# Altium schematic symbol library devkit-visao.SchLib: 57 symbols (part 2 of 2)
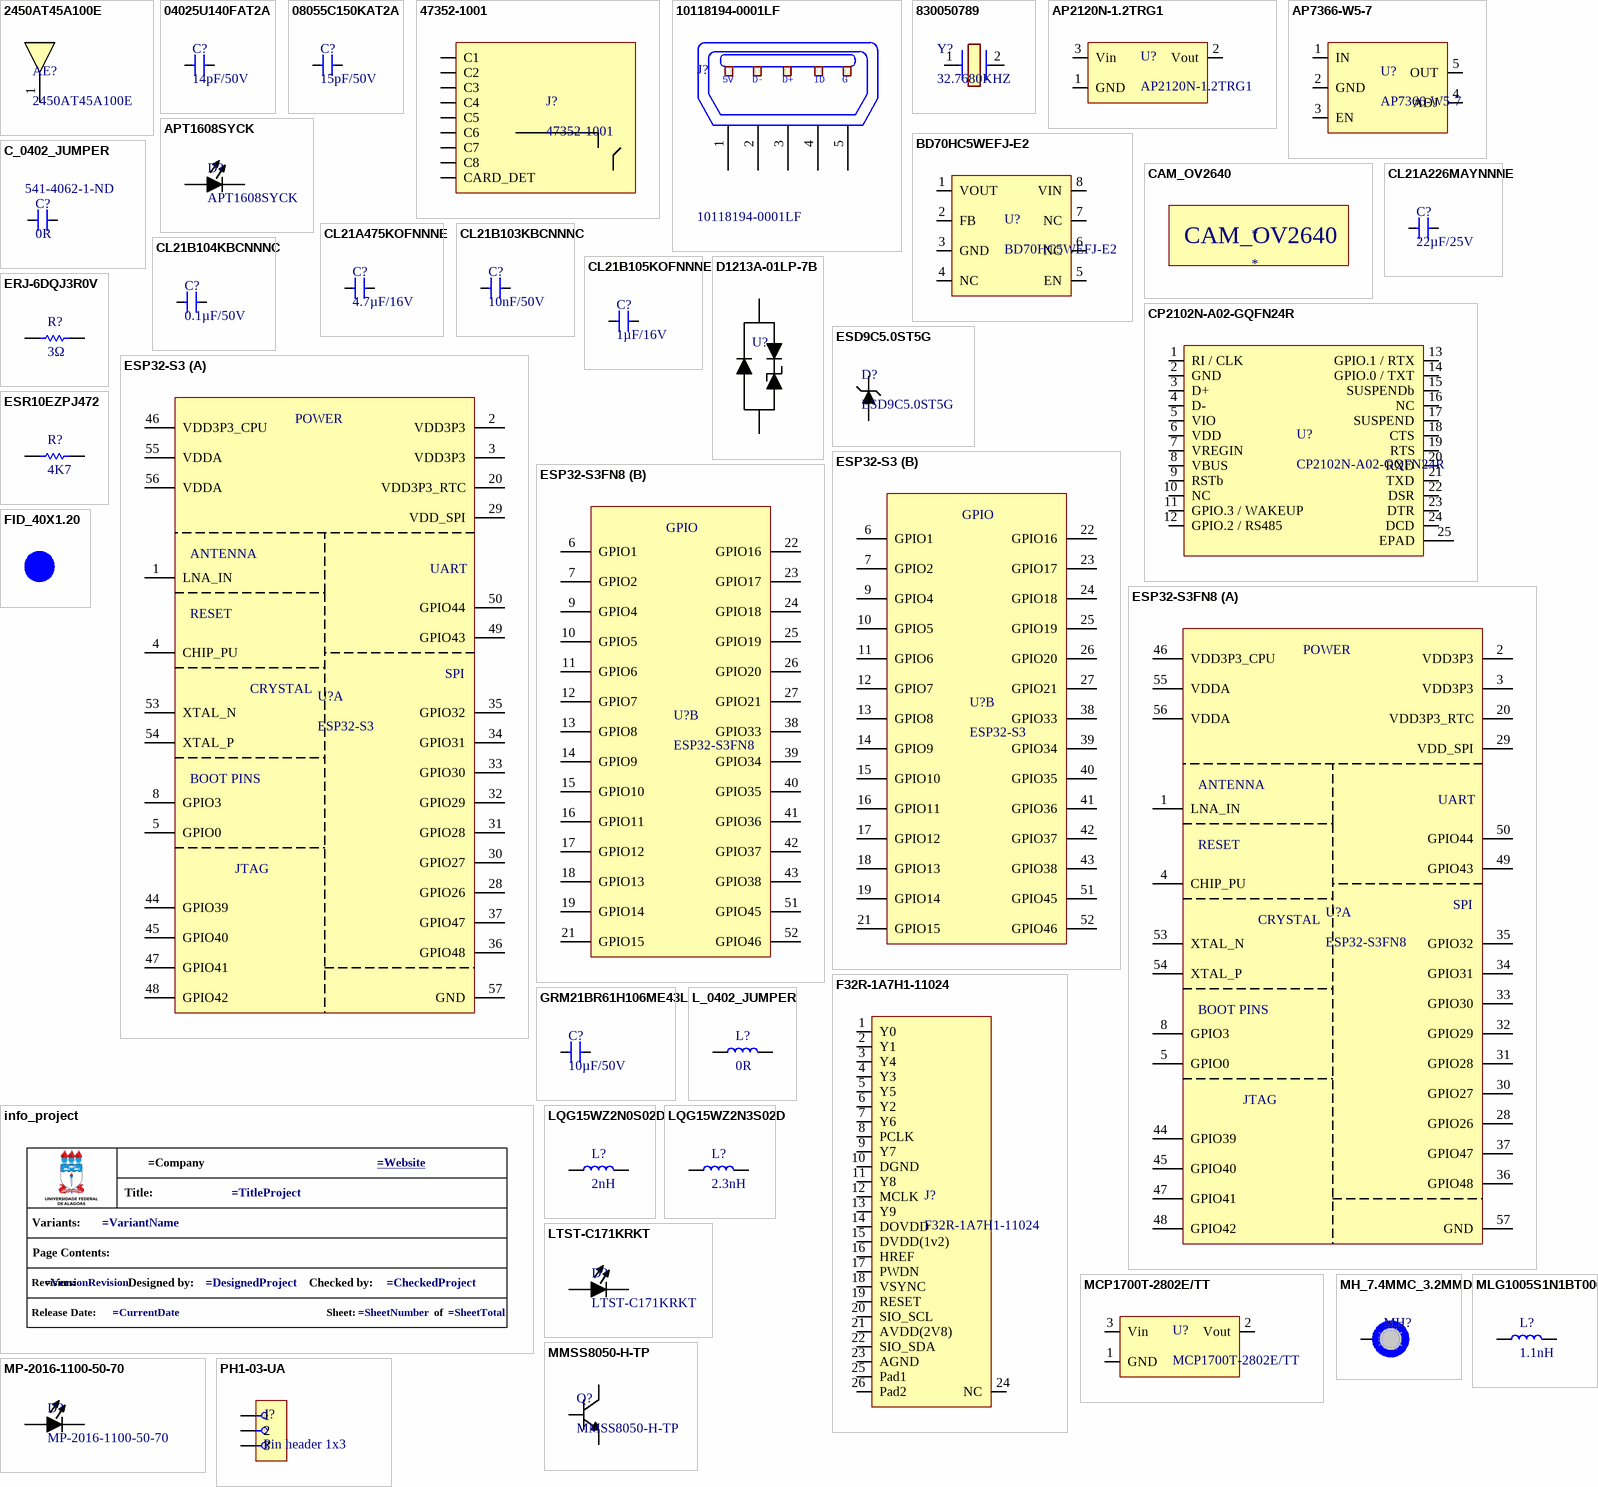
[diagram p2: symbols 2450AT45A100E to PH1-03-UA]

## MCP1700T-2802E/TT
designator U?
IC - REG LINEAR 2.8V 250MA SOT23-3; Manufacturer 1: Diodes; Manufacturer Part Number 1: AP2120N-1.2TRG1; Dropout Voltage: 900mV; Number of Outputs: 1; Min Input Voltage: 2V; Max Input Voltage: 6V; Output Voltage: 1.2V; Output Current: 150mA; Polarity: Positive; Quiescent Current: 50uA; Accuracy: 2%; Output Type: Fixed; Power Supply Rejection Ratio (PSRR): 65dB; .SCHChecked: Victor H; Supplier 1: Digi-Key; RoHS: Yes; Category: Voltage Regulators - Linear; Stock 1: 16523; Pricing 1: 1=0,40000, 10=0,29500, 25=0,25840, 100=0,16710, 250=0,13832, 500=0,11066, 1000=0,08484 (USD); Mount: Surface Mount; Case/Package: TO-236-3; Number of Pins: 3; Min Operating Temperature: -40°C; Max Operating Temperature: 85°C; Package Quantity: 3000; Packaging: Tape and Reel; Number of Regulators: 1; Max Output Current: 150mA; Output Configuration: Positive; Min Output Voltage: 1.2V; RoHS Compliant: Yes; Supplier Part Number 1: AP2120N-1.2TRG1DICT-ND; Supplier 2: Digi-Key; Stock 2: 59427; Pricing 2: 1=0,50000, 25=0,42400, 100=0,37500 (USD); Output Voltage Accuracy: 2%; Series: -; Radiation Hardening: No; Lead Free: Lead Free; ComponentLink4URL: https://datasheet.ciiva.com/16450/filehandler-aspxddocname-en011779-16450300.pdf?src-supplier=Future+Electronics; ComponentLink4Description: https://datasheet.ciiva.com/16450/filehandler-aspxddocname-en011779-16450300.pdf?src-supplier=Future+Electronics; ComponentLink5URL: https://datasheet.ciiva.com/2055/21826b-2055089.pdf?src-supplier=Digi-Key; ComponentLink5Description: https://datasheet.ciiva.com/2055/21826b-2055089.pdf?src-supplier=Digi-Key; Supplier Part Number 2: MCP1700T-2802E/TTCT-ND; .PCBChecked: Victor H
footprint MCP1700T-2802E/TT
pins: 1 GND, 2 Vout, 3 Vin

## MH_7.4MMC_3.2MMD
designator MH?  (value not drawn)  (no BOM)
Mounting Hole 7.4mm Diameter 3.2mm Drill
footprint MH_7.4MMC_3.2MMD
pins: 1

## MLG1005S1N1BT000
designator L?, comment 1.1nH
IND - 1.1nH 1A 0402 100mΩ ±0.1nH; Manufacturer 1: TDK; Manufacturer Part Number 1: MLG1005S1N1BT000; Core Material: Non-Magnetic,Ceramic; Shielding: Unshielded; Q Factor: 7; DC Resistance (DCR): 100mR; Self Resonant Frequency: 10GHz; Test Frequency: 100MHz; .SCHChecked: Alex Batista; Supplier 1: Digi-Key; Stock 1: 9040; Pricing 1: 1=0.10000, 10=0.05800, 25=0.05120, 50=0.04360, 100=0.03840, 250=0.03520, 500=0.03200, 1000=0.02688, 2500=0.02304 (USD); RoHS: Yes; Mount: Surface Mount; Case/Package: 0402; Weight: 2.3E-05oz; Case Code (Imperial): 0402; Case Code (Metric): 1005; Min Operating Temperature: -55°C; Max Operating Temperature: 125°C; Packaging: Tape and Reel; Current Rating: 1A; Termination: SMD/SMT; Max DC Current: 1A; Inductance: 1.1nH; Package Quantity: 10000; Length: 0.039inch; Width: 0.02inch; Height: 0.5mm; Height - Seated (Max): 0.022inch; ComponentLink1URL: http://www.mouser.com/ds/2/400/nductor_commercial_high-frequency_mlg1005s_en-918305.pdf?src-supplier=Mouser; ComponentLink1Description: http://www.mouser.com/ds/2/400/nductor_commercial_high-frequency_mlg1005s_en-918305.pdf?src-supplier=Mouser; ComponentLink2URL: https://product.tdk.com/info/en/catalog/datasheets/inductor_commercial_high-frequency_mlg1005s_en.pdf?src-supplier=Digi-Key; ComponentLink2Description: https://product.tdk.com/info/en/catalog/datasheets/inductor_commercial_high-frequency_mlg1005s_en.pdf?src-supplier=Digi-Key; Supplier Part Number 1: 445-16255-1-ND; .PCBChecked: Alex Batista; Supplier 2: Digi-Key; Stock 2: 21105; Pricing 2: 1=0.10000, 10=0.06300, 25=0.05600, 50=0.04760, 100=0.04200, 250=0.03852, 500=0.03500, 1000=0.02940, 2500=0.02520 (USD); Supplier Part Number 2: 490-15068-1-ND
footprint L0402
pins: 1, 2

## MMSS8050-H-TP
designator Q?
TRANSISTOR - NPN 25V 1.5A SOT23; Manufacturer 1: MCC; hFE Min: 120; Max Power Dissipation: 625mW; Collector Emitter Voltage (VCEO): 500mV; Collector Base Voltage (VCBO): 40V; Emitter Base Voltage (VEBO): 5V; Transition Frequency: 100MHz; Element Configuration: Single; .SCHChecked: Victor H; mouting: SMD; ComponentLink1URL: https://datasheet.ciiva.com/18648/dss5320t-18648043.pdf?src-supplier=Digi-Key; ComponentLink1Description: https://datasheet.ciiva.com/18648/dss5320t-18648043.pdf?src-supplier=Digi-Key; ComponentLink2URL: https://datasheet.ciiva.com/11206/dss5320t-11206349.pdf?src-supplier=Avnet; ComponentLink2Description: https://datasheet.ciiva.com/11206/dss5320t-11206349.pdf?src-supplier=Avnet; Supplier 1: Digi-Key; Manufacturer Part Number 1: MMSS8050-H-TP; RoHS: Yes; Category: BJTs; Stock 1: 87310; Pricing 1: 1=0,21000, 10=0,17100, 100=0,09060, 500=0,05962, 1000=0,04054 (USD); Mount: Surface Mount; Case/Package: SOT-23; Number of Pins: 3; Min Operating Temperature: -55°C; Max Operating Temperature: 150°C; Packaging: Tape and Reel; Package Quantity: 3000; Polarity: NPN; Collector Emitter Saturation Voltage: 500mV; Max Collector Current: 1.5A; Collector Emitter Breakdown Voltage: 25V; Max Breakdown Voltage: 25V; Gain Bandwidth Product: 100MHz; Collector-emitter Voltage-Max: 500mV; Series: -; Lead Free: Lead Free; RoHS Compliant: Yes; ComponentLink3URL: https://datasheet.ciiva.com/16291/mmss8050-255048-16291447.pdf?src-supplier=Mouser; ComponentLink3Description: https://datasheet.ciiva.com/16291/mmss8050-255048-16291447.pdf?src-supplier=Mouser; ComponentLink4URL: https://datasheet.ciiva.com/972/mmss8050sot-23-972894.pdf?src-supplier=Digi-Key; ComponentLink4Description: https://datasheet.ciiva.com/972/mmss8050sot-23-972894.pdf?src-supplier=Digi-Key; ComponentLink5URL: https://datasheet.ciiva.com/972/mmss8050sot-23-972895.pdf?src-supplier=Digi-Key; ComponentLink5Description: https://datasheet.ciiva.com/972/mmss8050sot-23-972895.pdf?src-supplier=Digi-Key; ComponentLink6URL: https://datasheet.ciiva.com/972/mmss8050sot-23-972893.pdf?src-supplier=Digi-Key; ComponentLink6Description: https://datasheet.ciiva.com/972/mmss8050sot-23-972893.pdf?src-supplier=Digi-Key; Supplier Part Number 1: MMSS8050-H-TPMSCT-ND; .PCBChecked: Victor H
footprint MMSS8050-H-TP
pins: 1 B, 2 E, 3 C

## MP-2016-1100-50-70
designator D?
LED - Uni-Color White 27lm 5000K Chip LED 2-Pin SMD T/R; Manufacturer 1: Luminus Devices; Viewing Angle: 110°; Test Current: 60mA; Color Rendering Index (CRI): 70; Max Current Rating: 120mA; Thermal Resistance of Package: 35°C/W; Lens Style: Rectangular; Forward Voltage: 3V; Number of LEDs: 1; Max Power Dissipation: 816mW; Reverse Voltage: 5V; .PCBChecked: Victor H; Supplier 1: Digi-Key; Manufacturer Part Number 1: MP-2016-1100-50-70; RoHS: Yes; Category: Uncategorized; Stock 1: 60114; Pricing 1: 1=0,16000, 10=0,08600, 100=0,04060, 500=0,03476, 1000=0,02674, 2000=0,02514 (USD); Mount: Surface Mount; Case/Package: 0806; Number of Pins: 2; Color: White; Case Code (Metric): 2016; Case Code (Imperial): 0806; Min Operating Temperature: -40°C; Max Operating Temperature: 80°C; Packaging: Tape and Reel; Correlated Color Temperature (CCT): 5000 K; Luminous Flux: 27lm; RoHS Compliant: Yes; ComponentLink1URL: https://datasheet.ciiva.com/48679/luminus-mp2016-datasheet-48679211.pdf?src-supplier=Avnet; ComponentLink1Description: https://datasheet.ciiva.com/48679/luminus-mp2016-datasheet-48679211.pdf?src-supplier=Avnet; Supplier Part Number 1: 1214-1209-1-ND; .SCHChecked: Victor H
footprint MP-2016-1100-50-70
pins: 1, 2

## PH1-03-UA
designator J?, comment Pin header 1x3
CONN - HEADER VERT 3POS 2.54MM; Manufacturer 1: Adam Equipment; Manufacturer Part Number 1: PH1-03-UA; Number of Positions: 3; .SCHChecked: Victor H; Supplier 1: Digi-Key; RoHS: Yes; Category: Connectors; Stock 1: 48736; Pricing 1: 1=0,10000, 10=0,05000, 100=0,03650, 500=0,03024, 1000=0,02646, 5000=0,02268, 10000=0,02205 (USD); Pitch: 2.54mm; Lead Free: Lead Free; ComponentLink1URL: https://datasheet.ciiva.com/16396/catpg240-254-16396026.pdf?src-supplier=Future+Electronics; ComponentLink1Description: https://datasheet.ciiva.com/16396/catpg240-254-16396026.pdf?src-supplier=Future+Electronics; Supplier Part Number 1: 2057-PH1-03-UA-ND; .PCBChecked: Victor H
footprint PH1-03-UA
pins: 1, 2, 3

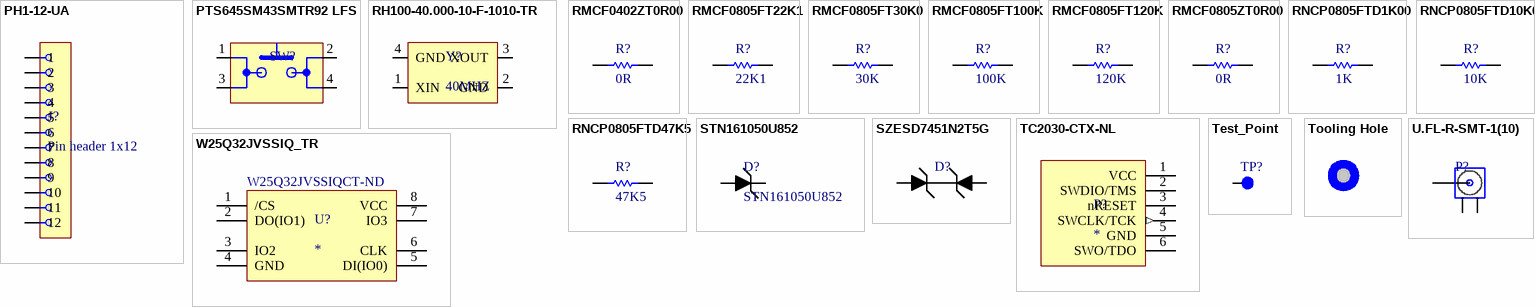
[diagram p1: symbols PH1-12-UA to W25Q32JVSSIQ_TR]

## PH1-12-UA
designator J?, comment Pin header 1x12
CONN - HEADER VERT 12POS 2.54MM; Manufacturer 1: Adam Equipment; Manufacturer Part Number 1: PH1-12-UA; .SCHChecked: Victor H; .PCBChecked: Victor H; ComponentLink1URL: http://www.adam-tech.com/catalog/2012/page_312-315.pdf?src-supplier=Future+Electronics; ComponentLink1Description: http://www.adam-tech.com/catalog/2012/page_312-315.pdf?src-supplier=Future+Electronics; Supplier 1: Digi-Key; RoHS: Yes; Category: Headers and Wire Housings; Stock 1: 4680; Pricing 1: 1=0,21000, 10=0,17600, 100=0,13510, 500=0,11434, 1000=0,09356, 5000=0,08316, 10000=0,07536 (USD); Lead Free: Lead Free; ComponentLink2URL: https://datasheet.ciiva.com/16480/page-312-315-16480233.pdf?src-supplier=Future+Electronics; ComponentLink2Description: https://datasheet.ciiva.com/16480/page-312-315-16480233.pdf?src-supplier=Future+Electronics; Supplier Part Number 1: 2057-PH1-12-UA-ND
footprint PH1-12-UA
pins: 1, 2, 3, 4, 5, 6, 7, 8, 9, 10, 11, 12

## PTS645SM43SMTR92 LFS
designator SW?, comment PTS645SM43SMTR92LFS  (value not drawn)
SWITCH - TACTILE SPST-NO 0.05A 12V; Manufacturer 1: ITT C&K; .PCBChecked: Victor H; Mechanical Life: 100000Cycles; Actuator Material: Nylon,Polyamide,PA66; Throw Configuration: SPST; Operating Force: 160gf; Contact Resistance: 100mR; Max Current Rating: 50mA; Illumination Type: Non-Illuminated,Illuminated; Switch Function: Off-Mom; Actuator Type: Standard; Actuator Length: 0.85mm; mouting: SMD; Supplier 1: Digi-Key; Supplier Part Number 1: CKN9112CT-ND; .SCHChecked: Victor H; Manufacturer Part Number 1: PTS645SM43SMTR92LFS; RoHS: Yes; Category: Tactile Switches; Stock 1: 586792; Pricing 1: 1=0,26000, 10=0,25100, 25=0,23840, 100=0,21580, 250=0,19676, 500=0,18288 (USD); Mount: Surface Mount; Case/Package: SMD/SMT; Contact Plating: Silver; Contact Material: Silver; Color: Black; Min Operating Temperature: -20°C; Max Operating Temperature: 60°C; Max Voltage Rating (DC): 12V; Packaging: Tape and Reel; Termination: Gull Wing; Package Quantity: 1; Current Rating: 50mA; Voltage Rating (DC): 12V; Orientation: Straight; Series: PTS645; Length: 6mm; Depth: 9mm; Size: 6mm; Lead Free: Lead Free; RoHS Compliant: Yes; REACH SVHC: No SVHC; ComponentLink1URL: https://datasheet.ciiva.com/29931/getdatasheetpartid-764615-29931183.pdf?src-supplier=Verical; ComponentLink1Description: https://datasheet.ciiva.com/29931/getdatasheetpartid-764615-29931183.pdf?src-supplier=Verical; ComponentLink2URL: https://datasheet.ciiva.com/29903/getdatasheetpartid-786341-29903846.pdf?src-supplier=Verical; ComponentLink2Description: https://datasheet.ciiva.com/29903/getdatasheetpartid-786341-29903846.pdf?src-supplier=Verical; ComponentLink3URL: https://datasheet.ciiva.com/14920/pts645-14920733.pdf?src-supplier=Digi-Key; ComponentLink3Description: https://datasheet.ciiva.com/14920/pts645-14920733.pdf?src-supplier=Digi-Key; ComponentLink4URL: https://datasheet.ciiva.com/14920/pts645-14920734.pdf?src-supplier=Digi-Key; ComponentLink4Description: https://datasheet.ciiva.com/14920/pts645-14920734.pdf?src-supplier=Digi-Key; ComponentLink5URL: https://datasheet.ciiva.com/14920/pts645-14920735.pdf?src-supplier=Digi-Key; ComponentLink5Description: https://datasheet.ciiva.com/14920/pts645-14920735.pdf?src-supplier=Digi-Key
footprint PTS645SM43SMTR92 LFS
pins: 1, 2, 3, 4

## RH100-40.000-10-F-1010-TR
designator Y?, comment 40MHZ
Crystal - 40MHz ±10ppm (Tol) ±10ppm (Stability) 10pF FUND 60Ohm 4-Pin SMD T/R; Manufacturer 1: Raltron Electronics; Manufacturer Part Number 1: RH100-40.000-10-F-1010-TR; .SCHChecked: Victor H; Supplier 1: Digi-Key; RoHS: Yes; Stock 1: 8779; Pricing 1: 1=0,39000, 10=0,32400, 50=0,29180, 100=0,25940, 500=0,24640, 1000=0,20750 (USD); Supplier Part Number 1: 2151-RH100-40.000-10-F-1010-TRCT-ND; .PCBChecked: Victor H
footprint RH100-40.000-10-F-1010-TR
pins: 1 XIN, 2 GND, 3 XOUT, 4 GND

## RMCF0402ZT0R00
designator R?, comment 0R
RES - 0R 1/16W 0402; Manufacturer: Stackpole Electronics; Manufacturer Part Number: RMCF0402ZT0R00; .PCBChecked: Victor Holanda; Power Rating: 63mW; Current Rating: 1A; Working Voltage: 50V; .SCHChecked: Victor Holanda; Supplier 1: Digi-Key; RoHS: Yes; Category: Chip SMD Resistors; Stock 1: 13640274; Pricing 1: 1=0,10000, 10=0,01000, 25=0,00720, 50=0,00560, 100=0,00410, 250=0,00316, 500=0,00252, 1000=0,00186, 5000=0,00133 (USD); Mount: Surface Mount; Case/Package: 0402; Case Code (Metric): 1005; Case Code (Imperial): 0402; Contact Plating: Tin,Matte; Min Operating Temperature: -55°C; Max Operating Temperature: 155°C; Resistance: 0R; Packaging: Tape and Reel; Resistor Type: Thick Film; Number of Terminations: 2; Max Power Dissipation: 63mW; Features: Automotive AEC-Q200; Series: RMCF; Technology: THICK FILM; Construction: Rectangular; Length: 0.039inch; Width: 0.02inch; Height: 0.016inch; Depth: 0.5mm; Radiation Hardening: No; Military Standard: Not; Lead Free: Lead Free; RoHS Compliant: Yes; ComponentLink1URL: https://datasheet.ciiva.com/26835/getdatasheetpartid-409751-26835612.pdf?src-supplier=Verical; ComponentLink1Description: https://datasheet.ciiva.com/26835/getdatasheetpartid-409751-26835612.pdf?src-supplier=Verical; Supplier Part Number 1: RMCF0402ZT0R00CT-ND
footprint R0402
pins: 1, 2

## RMCF0805FT22K1
designator R?, comment 22K1
RES - 22K1 1/8W 0805 ±1%; Manufacturer 1: Stackpole Electronics; Manufacturer Part Number 1: RMCF0805FT22K1; .PCBChecked: Victor H; Resistance: 22.1kR; Power Rating: 125mW; Temperature Coefficient: 100ppm/°C; .SCHChecked: Victor H; ComponentLink7URL: https://datasheet.ciiva.com/15193/getdatasheetpartid-409700-15193558.pdf?src-supplier=Verical; ComponentLink7Description: https://datasheet.ciiva.com/15193/getdatasheetpartid-409700-15193558.pdf?src-supplier=Verical; Supplier 1: Digi-Key; RoHS: Yes; Category: Chip SMD Resistors; Stock 1: 1311048; Pricing 1: 1=0,10000, 10=0,02700, 100=0,01090, 1000=0,00488, 2500=0,00423 (USD); Mount: Surface Mount; Case/Package: 0805; Case Code (Metric): 2012; Case Code (Imperial): 0805; Contact Plating: Tin,Matte; Size Code: 0805; Min Operating Temperature: -55°C; Max Operating Temperature: 155°C; Packaging: Tape and Reel; Tolerance: 1%; Resistor Type: Thick Film; Number of Terminations: 2; Max Power Dissipation: 125mW; Features: Automotive AEC-Q200; Series: RMCF; Construction: Rectangular; Length: 0.079inch; Width: 0.049inch; Height: 0.026inch; Depth: 1.25mm; Radiation Hardening: No; Military Standard: Not; Lead Free: Lead Free; RoHS Compliant: Yes; Supplier Part Number 1: RMCF0805FT22K1CT-ND
footprint R0805
pins: 1, 2

## RMCF0805FT30K0
designator R?, comment 30K
RES - 30K 1/8W 0805 ±1%; Manufacturer: Stackpole Electronics; Manufacturer Part Number: RMCF0805FT30K0; Resistance: 30kR; Max Power Dissipation: 125mW; Temperature Coefficient: 100ppm/°C; .SCHChecked: Victor H; Supplier 1: Digi-Key; RoHS: Yes; Category: Chip SMD Resistors; Stock 1: 854420; Pricing 1: 1=0,10000, 10=0,02700, 100=0,01090, 1000=0,00488, 2500=0,00423 (USD); Mount: Surface Mount; Case/Package: 0805; Contact Plating: Tin,Matte; Min Operating Temperature: -55°C; Max Operating Temperature: 155°C; Packaging: Tape and Reel; Tolerance: 1%; Resistor Type: Thick Film; Package Quantity: 5000; Number of Terminations: 2; Features: Automotive AEC-Q200; Series: RMCF; Length: 0.079inch; Width: 0.049inch; Height: 0.026inch; Radiation Hardening: No; Lead Free: Lead Free; RoHS Compliant: Yes; ComponentLink1URL: http://components.arrow.com/part/dataview/40964155S7714593N1174?src-supplier=Arrow+Electronics; ComponentLink1Description: http://components.arrow.com/part/dataview/40964155S7714593N1174?src-supplier=Arrow+Electronics; ComponentLink2URL: https://www.seielect.com/catalog/sei-rmcf_rmcp.pdf?src-supplier=Digi-Key; ComponentLink2Description: https://www.seielect.com/catalog/sei-rmcf_rmcp.pdf?src-supplier=Digi-Key; ComponentLink3URL: https://www.seielect.com/catalog/SEI-Packaging.pdf?src-supplier=Digi-Key; ComponentLink3Description: https://www.seielect.com/catalog/SEI-Packaging.pdf?src-supplier=Digi-Key; ComponentLink4URL: https://www.seielect.com/catalog/SEI-RMCF_RMCP.pdf?src-supplier=Avnet; ComponentLink4Description: https://www.seielect.com/catalog/SEI-RMCF_RMCP.pdf?src-supplier=Avnet; Supplier Part Number 1: RMCF0805FT30K0CT-ND; .PCBChecked: Victor H; mounting: SMD
footprint R0805
pins: 1, 2

## RMCF0805FT100K
designator R?, comment 100K
RES - 100K 1/8W 0805 ±1%; Manufacturer 1: Stackpole Electronics; Manufacturer Part Number 1: RMCF0805FT100K; Resistance: 100kR; Power Rating: 125mW; Temperature Coefficient: 100ppm/°C; Working Voltage: 150V; .SCHChecked: Victor H; Supplier 1: Digi-Key; RoHS: Yes; Category: Chip SMD Resistors; Stock 1: 3729573; Pricing 1: 1=0,10000, 10=0,02700, 100=0,01090, 1000=0,00488, 2500=0,00423 (USD); Mount: Surface Mount; Case/Package: 0805; Case Code (Metric): 2012; Case Code (Imperial): 0805; Contact Plating: Tin,Matte; Min Operating Temperature: -55°C; Max Operating Temperature: 155°C; Tolerance: 1%; Packaging: Tape and Reel; Resistor Type: Thick Film; Number of Terminations: 2; Max Power Dissipation: 125mW; Features: Automotive AEC-Q200; Series: RMCF; Construction: Rectangular; Technology: THICK FILM; Length: 2mm; Width: 0.049inch; Height: 0.026inch; Depth: 1.25mm; Radiation Hardening: No; Military Standard: Not; Lead Free: Lead Free; RoHS Compliant: Yes; ComponentLink1URL: http://components.arrow.com/part/dataview/50568053S7005095N1174?src-supplier=Arrow+Electronics; ComponentLink1Description: http://components.arrow.com/part/dataview/50568053S7005095N1174?src-supplier=Arrow+Electronics; ComponentLink2URL: https://www.seielect.com/catalog/SEI-RMCF_RMCP.pdf?src-supplier=Avnet; ComponentLink2Description: https://www.seielect.com/catalog/SEI-RMCF_RMCP.pdf?src-supplier=Avnet; ComponentLink3URL: http://www.onlinecomponents.com/productFiles/mf-SEI/sei-rmcp.pdf?src-supplier=Onlinecomponents.com; ComponentLink3Description: http://www.onlinecomponents.com/productFiles/mf-SEI/sei-rmcp.pdf?src-supplier=Onlinecomponents.com; ComponentLink4URL: http://www.seielect.com/catalog/sei-rmc.pdf?src-supplier=Future+Electronics; ComponentLink4Description: http://www.seielect.com/catalog/sei-rmc.pdf?src-supplier=Future+Electronics; ComponentLink5URL: https://www.verical.com/server-webapp/html/getDatasheet?partID=360692&src-supplier=Verical; ComponentLink5Description: https://www.verical.com/server-webapp/html/getDatasheet?partID=360692&src-supplier=Verical; ComponentLink6URL: https://www.seielect.com/catalog/SEI-Packaging.pdf?src-supplier=Digi-Key; ComponentLink6Description: https://www.seielect.com/catalog/SEI-Packaging.pdf?src-supplier=Digi-Key; Supplier Part Number 1: RMCF0805FT100KCT-ND; .PCBChecked: Victor H; mounting: SMD
footprint R0805
pins: 1, 2

## RMCF0805FT120K
designator R?, comment 120K
RES - 120K 1/8W 0805 ±1%; Manufacturer: Stackpole Electronics; Manufacturer Part Number: RMCF0805FT120K; Resistance: 120kR; Max Power Dissipation: 125mW; Temperature Coefficient: 100ppm/°C; Supplier 1: Digi-Key; RoHS: Yes; Category: Chip SMD Resistors; Stock 1: 24760; Pricing 1: 1=0,10000, 10=0,02700, 100=0,01090, 1000=0,00488, 2500=0,00423 (USD); Mount: Surface Mount; Case/Package: 0805; Case Code (Metric): 2012; Case Code (Imperial): 0805; Contact Plating: Tin,Matte; Min Operating Temperature: -55°C; Max Operating Temperature: 155°C; Tolerance: 1%; Packaging: Tape and Reel; Resistor Type: Thick Film; Number of Terminations: 2; Features: Automotive AEC-Q200; Series: RMCF; Length: 0.079inch; Width: 0.049inch; Height: 0.026inch; Radiation Hardening: No; Lead Free: Lead Free; RoHS Compliant: Yes; ComponentLink1URL: https://www.seielect.com/catalog/SEI-Packaging.pdf?src-supplier=Digi-Key; ComponentLink1Description: https://www.seielect.com/catalog/SEI-Packaging.pdf?src-supplier=Digi-Key; ComponentLink2URL: https://www.seielect.com/Catalog/SEI-RMCF_RMCP.pdf?src-supplier=Digi-Key; ComponentLink2Description: https://www.seielect.com/Catalog/SEI-RMCF_RMCP.pdf?src-supplier=Digi-Key; ComponentLink3URL: https://www.seielect.com/catalog/SEI-RMCF_RMCP.pdf?src-supplier=Avnet; ComponentLink3Description: https://www.seielect.com/catalog/SEI-RMCF_RMCP.pdf?src-supplier=Avnet; Supplier Part Number 1: RMCF0805FT120KCT-ND
footprint R0805
pins: 1, 2

## RMCF0805ZT0R00
designator R?, comment 0R
RES - 0R 1/8W 0805; Manufacturer 1: Stackpole Electronics; Manufacturer Part Number 1: RMCF0805ZT0R00; .PCBChecked: Victor Holanda; Power Rating: 125mW; mouting: SMD; .SCHChecked: Victor Holanda; Supplier 1: Digi-Key; RoHS: Yes; Category: Chip SMD Resistors; Stock 1: 6449300; Pricing 1: 1=0,10000, 10=0,01700, 25=0,01280, 50=0,00960, 100=0,00710, 250=0,00540, 500=0,00432, 1000=0,00318 (USD); Mount: Surface Mount; Case/Package: 0805; Case Code (Metric): 2012; Case Code (Imperial): 0805; Contact Plating: Tin,Matte; Size Code: 0805; Min Operating Temperature: -55°C; Max Operating Temperature: 155°C; Resistance: 0R; Packaging: Tape and Reel; Resistor Type: Thick Film; Number of Terminations: 2; Max Power Dissipation: 125mW; Features: Automotive AEC-Q200; Series: RMCF; Construction: Rectangular; Length: 2mm; Width: 0.049inch; Height: 0.026inch; Depth: 1.25mm; Radiation Hardening: No; Lead Free: Lead Free; Military Standard: Not; RoHS Compliant: Yes; ComponentLink7URL: https://datasheet.ciiva.com/15193/getdatasheetpartid-360417-15193658.pdf?src-supplier=Verical; ComponentLink7Description: https://datasheet.ciiva.com/15193/getdatasheetpartid-360417-15193658.pdf?src-supplier=Verical; Supplier Part Number 1: RMCF0805ZT0R00CT-ND
footprint R0805
pins: 1, 2

## RNCP0805FTD1K00
designator R?, comment 1K
RES - 1K 1/4W 0805 ±1%; Manufacturer 1: Stackpole Electronics; Manufacturer Part Number 1: RNCP0805FTD1K00; .PCBChecked: Victor Holanda; Resistance: 1kR; Power Rating: 250mW; Temperature Coefficient: 100ppm/°C; .SCHChecked: Victor Holanda; Supplier 1: Digi-Key; RoHS: Yes; Category: Chip SMD Resistors; Stock 1: 333101; Pricing 1: 1=0,10000, 10=0,07300, 100=0,02970, 1000=0,01336, 2500=0,01159 (USD); Mount: Surface Mount; Case/Package: 0805; Case Code (Metric): 2012; Case Code (Imperial): 0805; Size Code: 0805; Min Operating Temperature: -55°C; Max Operating Temperature: 155°C; Tolerance: 1%; Packaging: Tape and Reel; Resistor Type: Thin Film; Number of Terminations: 2; Max Power Dissipation: 250mW; Features: Moisture Resistant,Anti-Sulfur; Series: RNCP; Length: 0.079inch; Width: 0.049inch; Height: 0.024inch; Lead Free: Lead Free; RoHS Compliant: Yes; ComponentLink7URL: http://www.seielect.com/Catalog/SEI-rncp.pdf?src-supplier=Future+Electronics; ComponentLink7Description: http://www.seielect.com/Catalog/SEI-rncp.pdf?src-supplier=Future+Electronics; ComponentLink8URL: https://www.seielect.com/Catalog/SEI-rncp.pdf?src-supplier=Digi-Key; ComponentLink8Description: https://www.seielect.com/Catalog/SEI-rncp.pdf?src-supplier=Digi-Key; ComponentLink9URL: https://www.seielect.com/catalog/SEI-Packaging.pdf?src-supplier=Digi-Key; ComponentLink9Description: https://www.seielect.com/catalog/SEI-Packaging.pdf?src-supplier=Digi-Key; Supplier Part Number 1: RNCP0805FTD1K00CT-ND
footprint R0805
pins: 1, 2

## RNCP0805FTD10K0
designator R?, comment 10K
RES - 10K 1/4W 0805 ±1%; Manufacturer 1: Stackpole Electronics; Manufacturer Part Number 1: RNCP0805FTD10K0; .PCBChecked: Victor Holanda; Resistance: 10kR; Max Power Dissipation: 250mW; Temperature Coefficient: 100ppm/°C; .SCHChecked: Victor Holanda; Supplier 1: Digi-Key; RoHS: Yes; Category: Chip SMD Resistors; Stock 1: 744134; Pricing 1: 1=0,10000, 10=0,07300, 100=0,02970, 1000=0,01336, 2500=0,01159 (USD); Mount: Surface Mount; Case/Package: 0805; Case Code (Metric): 2012; Case Code (Imperial): 0805; Min Operating Temperature: -55°C; Max Operating Temperature: 155°C; Tolerance: 1%; Packaging: Tape and Reel; Resistor Type: Thin Film; Number of Terminations: 2; Features: Moisture Resistant,Anti-Sulfur; Series: RNCP; Length: 0.079inch; Width: 0.049inch; Height: 0.024inch; Lead Free: Lead Free; RoHS Compliant: Yes; ComponentLink7URL: https://www.seielect.com/catalog/SEI-Packaging.pdf?src-supplier=Digi-Key; ComponentLink7Description: https://www.seielect.com/catalog/SEI-Packaging.pdf?src-supplier=Digi-Key; Supplier Part Number 1: RNCP0805FTD10K0CT-ND
footprint R0805
pins: 1, 2

## RNCP0805FTD47K5
designator R?, comment 47K5
RES - 47K5 1/4W 0805 ±1%; Manufacturer 1: Stackpole Electronics; Manufacturer Part Number 1: RNCP0805FTD47K5; .PCBChecked: Victor H; Resistance: 47.5kR; Max Power Dissipation: 250mW; Temperature Coefficient: 100ppm/°C; .SCHChecked: Victor H; Supplier 1: Digi-Key; RoHS: Yes; Category: Chip SMD Resistors; Stock 1: 36830; Pricing 1: 1=0,10000, 10=0,07300, 100=0,02970, 1000=0,01336, 2500=0,01159 (USD); Mount: Surface Mount; Case/Package: 0805; Case Code (Metric): 2012; Case Code (Imperial): 0805; Min Operating Temperature: -55°C; Max Operating Temperature: 155°C; Tolerance: 1%; Packaging: Tape and Reel; Resistor Type: Thin Film; Number of Terminations: 2; Features: Moisture Resistant,Anti-Sulfur; Series: RNCP; Length: 0.079inch; Width: 0.049inch; Height: 0.024inch; RoHS Compliant: Yes; ComponentLink7URL: http://www.seielect.com/Catalog/SEI-rncp.pdf?src-supplier=Digi-Key; ComponentLink7Description: http://www.seielect.com/Catalog/SEI-rncp.pdf?src-supplier=Digi-Key; ComponentLink8URL: https://www.seielect.com/catalog/SEI-Packaging.pdf?src-supplier=Digi-Key; ComponentLink8Description: https://www.seielect.com/catalog/SEI-Packaging.pdf?src-supplier=Digi-Key; Supplier Part Number 1: RNCP0805FTD47K5CT-ND
footprint R0805
pins: 1, 2

## STN161050U852
designator D?
DIODE - ESD Suppressor TVS Single Uni-Dir 30KV 2-Pin SMD; Manufacturer 1: Eaton Bussmann; .SCHChecked: Victor H; Supplier 1: Digi-Key; Manufacturer Part Number 1: STN161050U852; RoHS: No; Stock 1: 8226; Pricing 1: 1=0,50000, 10=0,37600, 100=0,23410, 500=0,16016, 1000=0,12320 (USD); Supplier Part Number 1: 283-STN161050U852CT-ND; .PCBChecked: Victor H
footprint STN161050U852
pins: 1, 2

## SZESD7451N2T5G
designator D?  (value not drawn)
Transient Voltage Suppressors low cap ESD protection in SOD-882; Manufacturer 1: ON Semiconductor; Direction: Bidirectional; Capacitance: 0.35pF; Number of Bidirectional Channels: 1; Reverse Standoff Voltage: 3.3V; Min Breakdown Voltage: 6V; Power Line Protection: No; Clamping Voltage: 13V; Element Configuration: Single; .SCHChecked: Victor H; Supplier 1: Digi-Key; Manufacturer Part Number 1: SZESD7451N2T5G; RoHS: Yes; Category: TVS Diodes; Stock 1: 36434; Pricing 1: 1=0,49000, 10=0,42100, 100=0,31430, 500=0,24696, 1000=0,19083, 2000=0,17400 (USD); Mount: Surface Mount; Number of Pins: 2; Min Operating Temperature: -55°C; Max Operating Temperature: 150°C; Packaging: Tape and Reel; Working Voltage: 3.3V; Resistor Type: Zener; Lead Free: Lead Free; RoHS Compliant: Yes; ComponentLink1URL: https://datasheet.ciiva.com/48533/esd7451-d-48533317.pdf?src-supplier=Avnet; ComponentLink1Description: https://datasheet.ciiva.com/48533/esd7451-d-48533317.pdf?src-supplier=Avnet; Supplier Part Number 1: SZESD7451N2T5GOSCT-ND; .PCBChecked: Victor H
footprint SZESD7451N2T5G
pins: 1, 2

## TC2030-CTX-NL
designator P?  (no BOM)
6 pin Tag-Connect; .SCHChecked: Alex Batista; .PCBChecked: Alex Batista
footprint TC2030-CTX-NL
pins: 1 VCC, 2 SWDIO/TMS, 3 nRESET, 4 SWCLK/TCK (out), 5 GND, 6 SWO/TDO

## Test_Point
designator TP?, comment TestPoint  (value not drawn)  (no BOM)
MECH - Test Points
footprint Test Point
pins: 1

## Tooling Hole
designator TH?  (value not drawn)  (no BOM)
MECH - Tooling Holes
footprint Tooling Hole

## U.FL-R-SMT-1(10)
designator P?  (value not drawn)
CONN - Connector UFL; Manufacturer 1: Hirose; Body Material: Bronze; Body Plating: Silver; Dielectric Material: Polymer; Impedance: 50R; Connector Type: Coaxial,Receptacle,Male Pin; Frequency: 6GHz; Insulation Resistance: 500MR; Gender: Male; Wire/Cable Type: Coaxial; .SCHChecked: Alex Batista; Supplier 1: Digi-Key; Manufacturer Part Number 1: U.FL-R-SMT-1(10); Stock 1: 249511; Pricing 1: 1=1.310000, 10=1.150000, 25=1.082400, 50=1.037400, 100=0.992200, 250=0.902000, 500=0.811800, 1000=0.721600 (USD); RoHS: Yes; Mount: Surface Mount,Through Hole,PCB; Contact Material: Brass,Bronze; Contact Plating: Gold; Housing Color: Beige; Min Operating Temperature: -40°C; Max Operating Temperature: 90°C; Termination: Solder; Orientation: Straight; Packaging: Tape and Reel; Package Quantity: 2500; Fastening Type: Snap; Max Frequency: 6GHz; Length: 3mm; Depth: 3.1mm; Radiation Hardening: No; REACH SVHC: No SVHC; Lead Free: Lead Free; ComponentLink1URL: https://datasheet.ciiva.com/11762/0900766b8105243f-11762474.pdf?src-supplier=RSComponents; ComponentLink1Description: https://datasheet.ciiva.com/11762/0900766b8105243f-11762474.pdf?src-supplier=RSComponents; ComponentLink2URL: https://datasheet.ciiva.com/7651/91524-7651914.pdf?src-supplier=Element14; ComponentLink2Description: https://datasheet.ciiva.com/7651/91524-7651914.pdf?src-supplier=Element14; ComponentLink3URL: https://datasheet.ciiva.com/7651/91524-7651915.pdf?src-supplier=Element14; ComponentLink3Description: https://datasheet.ciiva.com/7651/91524-7651915.pdf?src-supplier=Element14; Supplier 2: Mouser; Manufacturer 2: Hirose; Manufacturer Part Number 2: U.FL-R-SMT-1(10); Stock 2: 42299; Pricing 2: 1=1.190000, 10=0.984000, 50=0.984000, 100=0.903000, 250=0.820000, 500=0.753000, 1000=0.656000, 2500=0.595000, 10000=0.595000 (USD); Supplier Part Number 1: H11891CT-ND; Supplier Part Number 2: 798-U.FL-R-SMT-110; .PCBChecked: Alex Batista
footprint U.FL-R-SMT-1(10)
pins: 1, 2, 3

## W25Q32JVSSIQ_TR
designator U?  Supplier Part Number 1: W25Q32JVSSIQCT-ND
IC - NOR Flash Serial (SPI, Dual SPI, Quad SPI) 3V/3.3V 32M-bit 4M x 8 6ns 8-Pin SOIC T/R; Manufacturer 1: Winbond; Manufacturer Part Number 1: W25Q32JVSSIQ TR; Memory Type: FLASH,NOR; Frequency: 104MHz; Interface: SPI,Serial; Supplier 1: Digi-Key; RoHS: Yes; Category: Flash; Stock 1: 124113; Pricing 1: 1=0,94000, 10=0,85700, 25=0,84640, 50=0,84120, 100=0,75220, 250=0,74580, 500=0,73480, 1000=0,70850 (USD); Case/Package: SOIC; Min Operating Temperature: -40°C; Max Operating Temperature: 85°C; Packaging: Tape and Reel; RoHS Compliant: Yes; ComponentLink1URL: http://www.winbond.com/resource-files/w25q32jv%20revg%2003272018%20plus.pdf?src-supplier=Digi-Key; ComponentLink1Description: http://www.winbond.com/resource-files/w25q32jv%20revg%2003272018%20plus.pdf?src-supplier=Digi-Key
footprint SOIC127P790X216-8N
pins: 1 /CS, 2 DO(IO1), 3 IO2, 4 GND, 5 DI(IO0), 6 CLK, 7 IO3, 8 VCC